# EAGLE library part TLC59282_DBQ_24 (library tlc59282dbq)
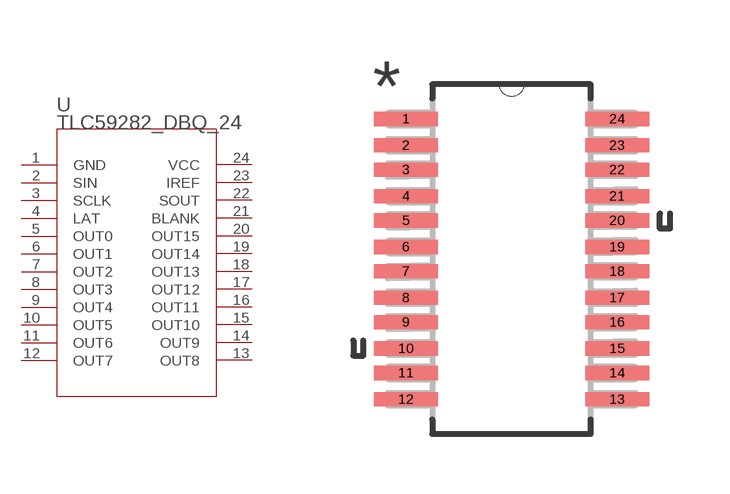
[diagram p0: symbol with the pads of DBQ24; footprint DBQ24]

Designator prefix U

## TLC59282_DBQ_24 (DATASHEETURL: http://www.ti.com/lit/gpn/TLC59282; DESCRIPTION: 16-Channel Constant Current LED Driver with 4-Channel Grouped Delay; FAMILY_NAME: LED DRIVER; GENERIC_PART_NUMBER: TLC59282; INDUSTRY_STD_PKG_TYPE: SSOP/QSOP; MANUFACTURER: Texas Instruments; MANUFACTURER_PART_NUMBER: tlc59282_dbq_24; PACKAGE_DESIGNATOR: DBQ; PIN_COUNT: 24; VENDOR: Texas Instruments)  [DBQ24]
1  GND  pwr
2  SIN  in
3  SCLK  in
4  LAT  in
5  OUT0  out
6  OUT1  out
7  OUT2  out
8  OUT3  out
9  OUT4  out
10  OUT5  out
11  OUT6  out
12  OUT7  out
13  OUT8  out
14  OUT9  out
15  OUT10  out
16  OUT11  out
17  OUT12  out
18  OUT13  out
19  OUT14  out
20  OUT15  out
21  BLANK  in
22  SOUT  out
23  IREF
24  VCC  pwr

## Footprint DBQ24 (pad centres in mm)
smd 1.6 x 0.356: 1 -2.642,3.505; 2 -2.642,2.845; 3 -2.642,2.235; 4 -2.642,1.575; 5 -2.642,0.965; 6 -2.642,0.305; 7 -2.642,-0.305; 8 -2.642,-0.965; 9 -2.642,-1.575; 10 -2.642,-2.235; 11 -2.642,-2.845; 12 -2.642,-3.505; 13 2.642,-3.505; 14 2.642,-2.845; 15 2.642,-2.235; 16 2.642,-1.575; 17 2.642,-0.965; 18 2.642,-0.305; 19 2.642,0.305; 20 2.642,0.965; 21 2.642,1.575; 22 2.642,2.235; 23 2.642,2.845; 24 2.642,3.505